# EAGLE library part LPCXPRESSO_LPC1769 (library LPCXpresso_boards)
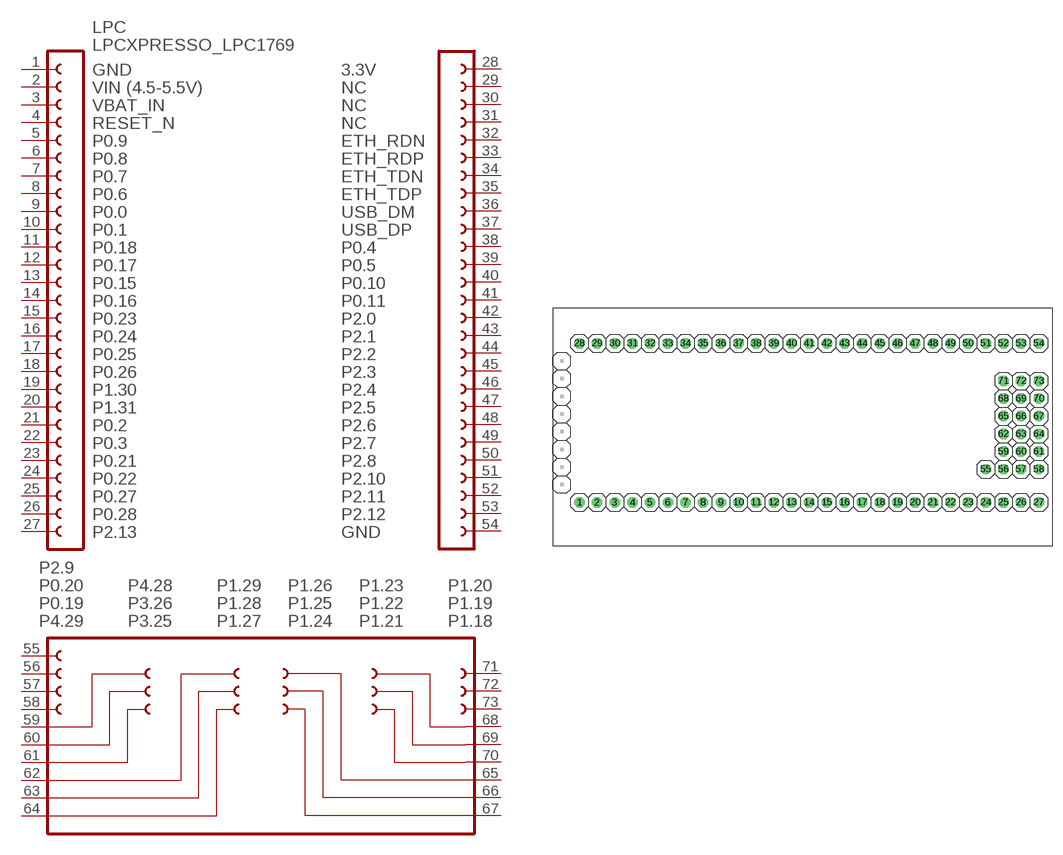
[diagram p3: symbol with the pads of LPCXPRESSO_LPC1769; footprint LPCXPRESSO_LPC1769]

Designator prefix LPC

## LPCXPRESSO_LPC1769  [LPCXPRESSO_LPC1769]
1  1  pas
2  2  pas
3  3  pas
4  4  pas
5  5  pas
6  6  pas
7  7  pas
8  8  pas
9  9  pas
10  10  pas
11  11  pas
12  12  pas
13  13  pas
14  14  pas
15  15  pas
16  16  pas
17  17  pas
18  18  pas
19  19  pas
20  20  pas
21  21  pas
22  22  pas
23  23  pas
24  24  pas
25  25  pas
26  26  pas
27  27  pas
28  28  pas
29  29  pas
30  30  pas
31  31  pas
32  32  pas
33  33  pas
34  34  pas
35  35  pas
36  36  pas
37  37  pas
38  38  pas
39  39  pas
40  40  pas
41  41  pas
42  42  pas
43  43  pas
44  44  pas
45  45  pas
46  46  pas
47  47  pas
48  48  pas
49  49  pas
50  50  pas
51  51  pas
52  52  pas
53  53  pas
54  54  pas
55  55  pas
56  56  pas
57  57  pas
58  58  pas
59  59  pas
60  60  pas
61  61  pas
62  62  pas
63  63  pas
64  64  pas
65  65  pas
66  66  pas
67  67  pas
68  68  pas
69  69  pas
70  70  pas
71  71  pas
72  72  pas
73  73  pas

## Footprint LPCXPRESSO_LPC1769 (pad centres in mm)
drill 1 octagon: 1 3.81,6.35; 2 6.35,6.35; 3 8.89,6.35; 4 11.43,6.35; 5 13.97,6.35; 6 16.51,6.35; 7 19.05,6.35; 8 21.59,6.35; 9 24.13,6.35; 10 26.67,6.35; 11 29.21,6.35; 12 31.75,6.35; 13 34.29,6.35; 14 36.83,6.35; 15 39.37,6.35; 16 41.91,6.35; 17 44.45,6.35; 18 46.99,6.35; 19 49.53,6.35; 20 52.07,6.35; 21 54.61,6.35; 22 57.15,6.35; 23 59.69,6.35; 24 62.23,6.35; 25 64.77,6.35; 26 67.31,6.35; 27 69.85,6.35; 28 3.81,29.21; 29 6.35,29.21; 30 8.89,29.21; 31 11.43,29.21; 32 13.97,29.21; 33 16.51,29.21; 34 19.05,29.21; 35 21.59,29.21; 36 24.13,29.21; 37 26.67,29.21; 38 29.21,29.21; 39 31.75,29.21; 40 34.29,29.21; 41 36.83,29.21; 42 39.37,29.21; 43 41.91,29.21; 44 44.45,29.21; 45 46.99,29.21; 46 49.53,29.21; 47 52.07,29.21; 48 54.61,29.21; 49 57.15,29.21; 50 59.69,29.21; 51 62.23,29.21; 52 64.77,29.21; 53 67.31,29.21; 54 69.85,29.21; 55 62.23,11.1; 56 64.77,11.1; 57 67.31,11.1; 58 69.85,11.1; 59 64.77,13.64; 60 67.31,13.64; 61 69.85,13.64; 62 64.77,16.18; 63 67.31,16.18; 64 69.85,16.18; 65 64.77,18.72; 66 67.31,18.72; 67 69.85,18.72; 68 64.77,21.26; 69 67.31,21.26; 70 69.85,21.26; 71 64.77,23.8; 72 67.31,23.8; 73 69.85,23.8